# Altium schematic symbol library AC_Power.SchLib: 1 symbol
Pins are listed as number, name and electrical type; pins without a type are passive.

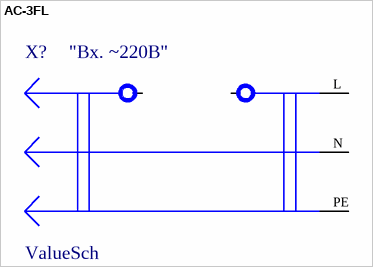
[diagram p0: symbol AC-3FL]

## AC-3FL
designator X?, comment ValueSch  Marking: "Вх. ~220В"
Сетевая вилка ~220В на панель, с предохранителем 5x20мм; ValueSch: AC-3FL
footprint PQFP-100/S14-0.5
pins: 1, 2, L, N, PE